# EAGLE library part 615008150121 (library Wurth-USB)
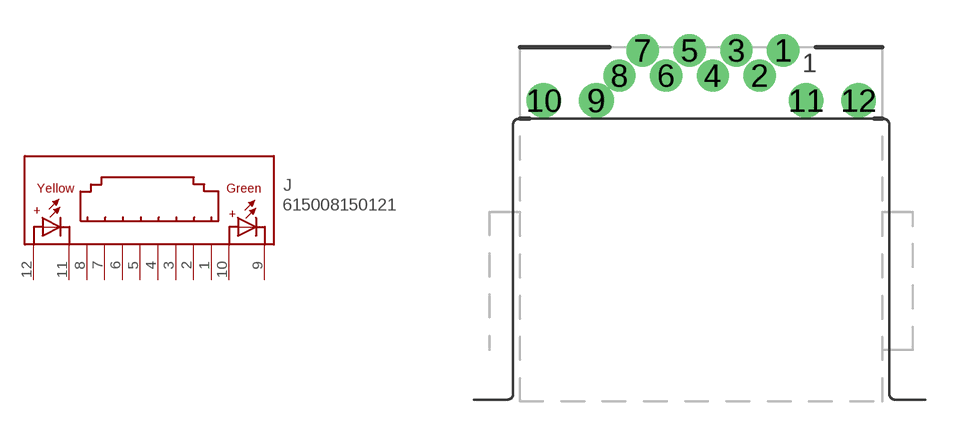
[diagram p184: symbol with the pads of 615008150121; footprint 615008150121]

Designator prefix J

## 615008150121  [615008150121]
1  1  pas
2  2  pas
3  3  pas
4  4  pas
5  5  pas
6  6  pas
7  7  pas
8  8  pas
9  9  pas
10  10  pas
11  11  pas
12  12  pas

## Footprint 615008150121 (pad centres in mm)
drill 0.9 pad 1.35: 1 3.57,0.55; 2 2.55,-0.55; 3 1.53,0.55; 4 0.51,-0.55; 5 -0.51,0.55; 6 -1.53,-0.55; 7 -2.55,0.55; 8 -3.57,-0.55
drill 1 pad 1.45: 9 -4.57,-1.63; 10 -6.86,-1.63; 11 4.57,-1.63; 12 6.86,-1.63